# EAGLE library part 4070-QUAD-XOR (library ryans-common-components)
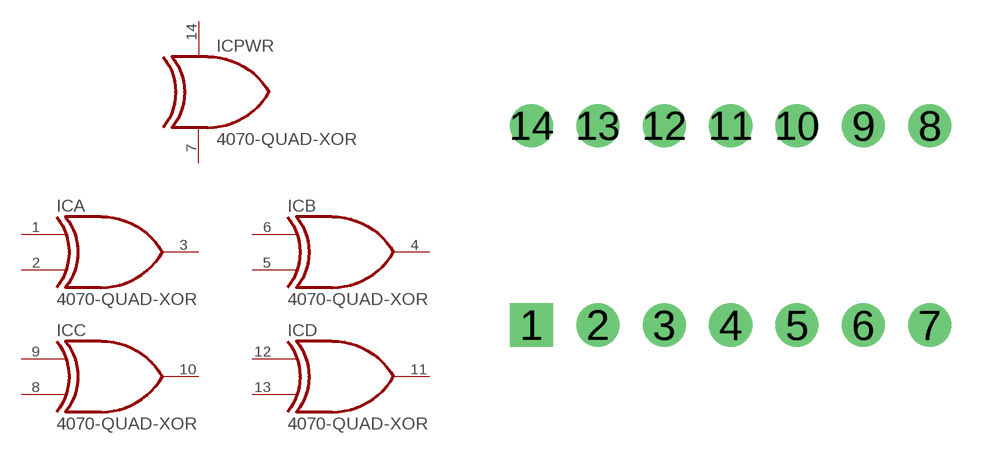
[diagram p19: symbol with the pads of DIP14-SOCKET; footprint DIP14-SOCKET]

Designator prefix IC; gates PWR=GATE-XOR-PWR A=GATE-XOR B=GATE-XOR C=GATE-XOR D=GATE-XOR

## 4070-QUAD-XOR-DIP14-SOCKET  [DIP14-SOCKET]
1  A:IN-A  in
2  A:IN-B  in
3  A:Q  out
4  B:Q  out
5  B:IN-B  in
6  B:IN-A  in
7  PWR:VSS/GND  pwr
8  C:IN-B  in
9  C:IN-A  in
10  C:Q  out
11  D:Q  out
12  D:IN-A  in
13  D:IN-B  in
14  PWR:VDD/VCC  pwr

## Footprint DIP14-SOCKET (pad centres in mm)
drill 0.8 pad 1.651 square: 1 -7.62,-3.81
drill 0.8 pad 1.651: 2 -5.08,-3.81; 3 -2.54,-3.81; 4 0,-3.81; 5 2.54,-3.81; 6 5.08,-3.81; 7 7.62,-3.81; 8 7.62,3.81; 9 5.08,3.81; 10 2.54,3.81; 11 0,3.81; 12 -2.54,3.81; 13 -5.08,3.81; 14 -7.62,3.81